# EAGLE library part LEVELSHIFTER (library Garagentor)
Logic Level Converter - Bi-Direc Check availability <https://pricing.snapeda.com/parts/BOB-12009/SparkFun/view-part?ref=eda>
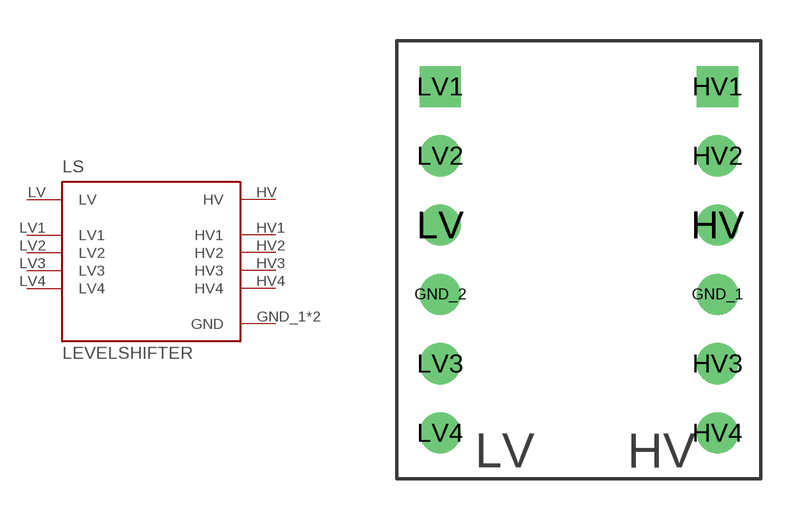
[diagram p0: symbol with the pads of LEVELSHIFTER; footprint LEVELSHIFTER]

Designator prefix LS

## LEVELSHIFTER (AVAILABILITY: In Stock; DESCRIPTION: BSS138 Logic-Level Translator Interface Evaluation Board; MF: SparkFun; MP: BOB-12009; PACKAGE: None; PRICE: None; PURCHASE-URL: https://pricing.snapeda.com/search?q=BOB-12009&ref=eda)  [LEVELSHIFTER]
GND_1  GND  pwr
GND_2  GND  pwr
HV  HV
HV1  HV1
HV2  HV2
HV3  HV3
HV4  HV4
LV  LV
LV1  LV1
LV2  LV2
LV3  LV3
LV4  LV4

## Footprint LEVELSHIFTER (pad centres in mm)
drill 1: GND_1 5.08,-1.27; GND_2 -5.08,-1.27; HV 5.08,1.27; HV2 5.08,3.81; HV3 5.08,-3.81; HV4 5.08,-6.35; LV -5.08,1.27; LV2 -5.08,3.81; LV3 -5.08,-3.81; LV4 -5.08,-6.35
drill 1 square: HV1 5.08,6.35; LV1 -5.08,6.35